# Altium footprint library Lib_foot_Radar.PcbLib: 80 footprints (part 4 of 5)
Each footprint in its own frame and in the unit in brackets; x right, y up, seen from the top. Pads: shape width x height; smd on the part's side, far side on the other; paste and mask are expansions set on the pad; w line width, h text height; cw(c..) or ccw(c..) is an arc to the next point about the centre after c.
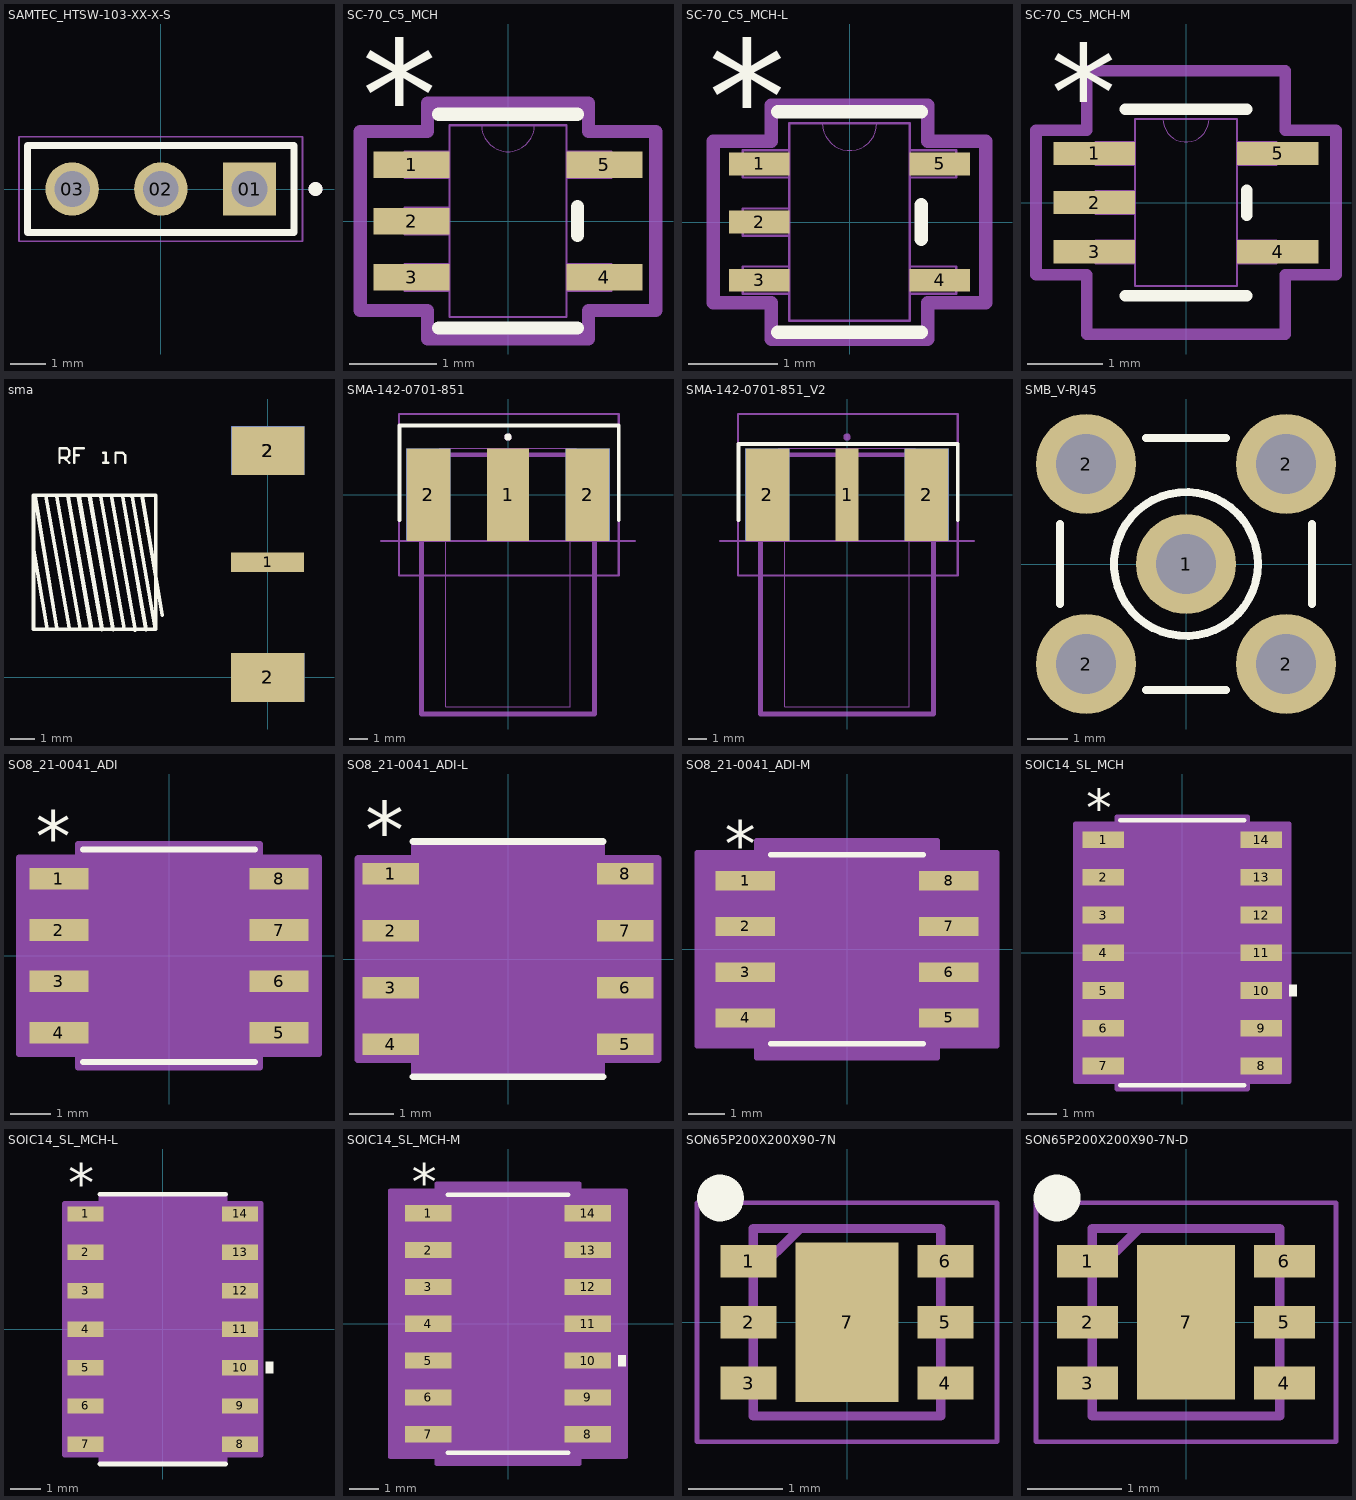
[diagram p3: the footprints below, top view; thin cyan lines are the x and y axes]

## SAMTEC_HTSW-103-XX-X-S [mm]
pads (3):
  rect 1.53x1.53 hole 1.02: 01(2.54,0)
  round 1.53 hole 1.02: 02(0,0) 03(-2.54,0)
Top Overlay:
  circle w0.2: c4.43,0 r0.1
  lines w0.2: -3.81,-1.245 3.81,-1.245 3.81,1.245 -3.81,1.245 -3.81,-1.245
Mechanical 13:
  circle w0.2: c4.43,0 r0.1
  lines w0.1: -3.81,-1.245 3.81,-1.245 3.81,1.245 -3.81,1.245 -3.81,-1.245
Mechanical 15:
  lines w0.05: -4.06,-1.495 4.06,-1.495 4.06,1.495 -4.06,1.495 -4.06,-1.495

## SC-70_C5_MCH [mil]
pads (5):
  rect 34.5x12 smd paste+0 mask+0: 1(-43.75,25.59) 2(-43.75,0) 3(-43.75,-25.59) 4(43.75,-25.59) 5(43.75,25.59)
Top Overlay:
  lines w6: -31.5,-48.5 31.5,-48.5 ; -31.5,48.5 31.5,48.5 ; 31.5,-6.49 31.5,6.49
  text "*" at -66.25,32.59 h50
Mechanical 13:
  lines w0: -12,43.5 ccw(c0,43.5) 12,43.5
  lines w1: -47,-31.59 -26.5,-31.59 -26.5,-19.59 -47,-19.59 -47,-31.59 ; -47,-6 -26.5,-6 -26.5,6 -47,6 -47,-6 ; -47,19.59 -26.5,19.59 -26.5,31.59 -47,31.59 -47,19.59 ; -26.5,-43.5 -26.5,43.5 26.5,43.5 26.5,-43.5 -26.5,-43.5 ; 26.5,-31.59 47,-31.59 47,-19.59 26.5,-19.59 26.5,-31.59 ; 26.5,19.59 47,19.59 47,31.59 26.5,31.59 26.5,19.59
  text "*" at -29,-10.41 h50
Mechanical 15:
  lines w6: -67,-40.59 -67,40.59 -36.5,40.59 -36.5,53.5 36.5,53.5 36.5,40.59 67,40.59 67,-40.59 36.5,-40.59 36.5,-53.5 -36.5,-53.5 -36.5,-40.59 -67,-40.59
3D body "SC-70_C5_MCH.step": height 43.11, standoff 0, extent -47.01,-43.5 47.01,43.5

## SC-70_C5_MCH-L [mil]
pads (5):
  rect 26.5x10 smd paste+0 mask+0: 1(-39.75,25.59) 2(-39.75,0) 3(-39.75,-25.59) 4(39.75,-25.59) 5(39.75,25.59)
Top Overlay:
  lines w6: -31.5,-48.5 31.5,-48.5 ; -31.5,48.5 31.5,48.5 ; 31.5,-7.49 31.5,7.49
  text "*" at -62.25,30.59 h50
Mechanical 13:
  lines w0: -12,43.5 ccw(c0,43.5) 12,43.5
  lines w1: -47,-31.59 -47,-19.59 -26.5,-19.59 -26.5,-31.59 -47,-31.59 ; -47,-6 -47,6 -26.5,6 -26.5,-6 -47,-6 ; -47,19.59 -47,31.59 -26.5,31.59 -26.5,19.59 -47,19.59 ; -26.5,-43.5 26.5,-43.5 26.5,43.5 -26.5,43.5 -26.5,-43.5 ; 26.5,-31.59 26.5,-19.59 47,-19.59 47,-31.59 26.5,-31.59 ; 26.5,19.59 26.5,31.59 47,31.59 47,19.59 26.5,19.59
  text "*" at -29,-12.41 h50
Mechanical 15:
  lines w6: -60,-35.59 -34.5,-35.59 -34.5,-51.5 34.5,-51.5 34.5,-35.59 60,-35.59 60,35.59 34.5,35.59 34.5,51.5 -34.5,51.5 -34.5,35.59 -60,35.59 -60,-35.59
3D body "SC-70_C5_MCH.step": height 43.11, standoff 0, extent -47.01,-43.5 47.01,43.5

## SC-70_C5_MCH-M [mil]
pads (5):
  rect 42.5x12 smd paste+0 mask+0: 1(-47.75,25.59) 2(-47.75,0) 3(-47.75,-25.59) 4(47.75,-25.59) 5(47.75,25.59)
Top Overlay:
  lines w6: -31.5,-48.5 31.5,-48.5 ; -31.5,48.5 31.5,48.5 ; 31.5,-6.49 31.5,6.49
  text "*" at -70.25,32.59 h50
Mechanical 13:
  lines w0: -12,43.5 ccw(c0,43.5) 12,43.5
  lines w1: -47,-31.59 -26.5,-31.59 -26.5,-19.59 -47,-19.59 -47,-31.59 ; -47,-6 -26.5,-6 -26.5,6 -47,6 -47,-6 ; -47,19.59 -26.5,19.59 -26.5,31.59 -47,31.59 -47,19.59 ; -26.5,-43.5 -26.5,43.5 26.5,43.5 26.5,-43.5 -26.5,-43.5 ; 26.5,-31.59 47,-31.59 47,-19.59 26.5,-19.59 26.5,-31.59 ; 26.5,19.59 47,19.59 47,31.59 26.5,31.59 26.5,19.59
  text "*" at -29,-10.41 h50
Mechanical 15:
  lines w6: -78,-37.59 -78,37.59 -51.5,37.59 -51.5,68.5 51.5,68.5 51.5,37.59 78,37.59 78,-37.59 51.5,-37.59 51.5,-68.5 -51.5,-68.5 -51.5,-37.59 -78,-37.59
3D body "SC-70_C5_MCH.step": height 43.11, standoff 0, extent -47.01,-43.5 47.01,43.5

## sma [mm]
pads (5):
  rect 3x0.8 smd mask+0.101: 1(-0.004,4.719)
  rect 3x2 smd mask+0.101: 2(0,0) 2(0.01,9.3)
  rect 3x2 smd far side mask+0.101: 2(0,0) 2(0,9.307)
Top Overlay:
  lines w0.1: -8.544,8.809 -8.544,9.409 -8.244,9.409 -8.144,9.309 -8.144,9.109 -8.244,9.009 -8.544,9.009 ; -8.344,9.009 -8.144,8.809 ; -7.944,8.809 -7.944,9.109 ; -7.544,9.409 -7.944,9.409 -7.944,9.109 ; -6.745,8.809 -6.545,8.809 -6.645,8.809 -6.645,9.209 -6.745,9.209 ; -6.245,8.809 -6.245,9.209 -5.945,9.209 -5.845,9.109 -5.845,8.809 ; -7.944,9.109 -7.744,9.109 -7.944,9.109
  lines w0.15: -9.613,1.971 -9.613,7.478 -4.613,7.478 ; -9.613,5.345 -9.042,1.971 ; -9.592,1.971 -4.592,1.971 -4.592,7.478 ; -9.55,7.435 -8.656,2.032 ; -9.103,7.456 -8.147,2.032 ; -8.188,7.414 -7.232,1.99 ; -7.762,7.393 -6.806,1.969 ; -7.741,7.435 -6.785,2.011 ; -7.315,7.414 -6.359,1.99 ; -6.4,7.372 -5.444,1.948 ; -5.953,7.393 -4.997,1.969 ; -5.567,7.415 -4.611,1.991 ; -5.161,7.478 -4.328,2.561 ; -8.656,7.414 -7.7,1.99 -8.656,7.414 ; -8.209,7.435 -7.253,2.011 -8.209,7.435 ; -7.294,7.393 -6.338,1.969 -7.294,7.393 ; -6.847,7.414 -5.891,1.99 -6.847,7.414

## SMA-142-0701-851 [mil] "SMA 50 Ohm, End Launch Jack Receptacle, Tab Contact"
height 312
pads (5):
  rect 90x200 smd: 1(0,0)
  rect 95x200 smd: 2(-172.5,0) 2(172.5,0)
  rect 95x200 smd far side: 2(-172.5,0) 2(172.5,0)
Top Overlay:
  circle w7.87: c0,125 r3.94
  lines w7.87: -235,-55 -235,150 240,150 240,-55
Mechanical 13:
  lines w4: -275,-100 275,-100
  lines w10: -187.5,-474.99 -187.5,87 187.5,87 187.5,-474.99 -187.5,-474.99
  text "PCB EDGE" at 260,-90 h24
Mechanical 15:
  lines w1.97: -147.64,-84.65 -147.64,100.39 147.64,100.39 147.64,-84.65 134.45,-84.65 134.45,-459.45 -134.45,-459.45 -134.45,-84.65 -147.64,-84.65
Mechanical 29:
  circle w7.87: c0,125 r3.94
  lines w5: -236.22,-175 -236.22,175 240.16,175 240.16,-175 -236.22,-175
  text ".Designator" at -95,-5 h19.68
3D body "142-0701-851.stp": height 161, standoff -151, extent -187.5,-490 187.5,72

## SMA-142-0701-851_V2 [mil] "SMA 50 Ohm, End Launch Jack Receptacle, Tab Contact"
height 312
pads (5):
  rect 50x200 smd: 1(0,0)
  rect 95x200 smd: 2(-172.5,0) 2(172.5,0)
  rect 95x200 smd far side: 2(-172.5,0) 2(172.5,0)
Top Overlay:
  lines w7.87: -235,-55 -235,110 240,110 240,-55
Mechanical 13:
  lines w4: -275,-100 275,-100
  lines w10: -187.5,-474.99 187.5,-474.99 187.5,87 -187.5,87 -187.5,-474.99
Mechanical 15:
  lines w1.97: -147.64,-84.65 -134.45,-84.65 -134.45,-459.45 134.45,-459.45 134.45,-84.65 147.64,-84.65 147.64,100.39 -147.64,100.39 -147.64,-84.65
Mechanical 29:
  circle w7.87: c0,125 r3.94
  lines w5: -236.22,-175 240.16,-175 240.16,175 -236.22,175 -236.22,-175
  text ".Designator" at -95,-5 h19.68
3D body "142-0701-851.stp": height 161, standoff -151, extent -187.5,-499.99 187.5,62

## SMB_V-RJ45 [mm]
pads (5):
  round 2.5 hole 1.5: 1(0,0) 2(-2.5,-2.5) 2(-2.5,2.5) 2(2.5,-2.5) 2(2.5,2.5)
Top Overlay:
  circle w0.2: c0,0 r1.8
  lines w0.2: -3.15,-1 -3.15,1 ; -1,-3.15 1,-3.15 ; -1,3.15 1,3.15 ; 3.15,-1 3.15,1
Mechanical 1:
  circle w0.025: c0,0 r1.8
  circle w0.025: c0,0 r1.05
  circle w0.025: c0,0 r0.2

## SO8_21-0041_ADI [mil]
pads (8):
  rect 57.5x21 smd paste+0 mask+0: 1(-107.25,75) 2(-107.25,25) 3(-107.25,-25) 4(-107.25,-75) 5(107.25,-75) 6(107.25,-25) 7(107.25,25) 8(107.25,75)
Top Overlay:
  lines w6: -83.5,-103.5 83.5,-103.5 ; -83.5,103.5 83.5,103.5
  text "*" at -129.75,91 h50
Mechanical 13:
  lines w0: -12,98.5 ccw(c0,98.5) 12,98.5
  lines w1: -122,-84.5 -122,-65.5 -78.5,-65.5 -78.5,-84.5 -122,-84.5 ; -122,-34.5 -122,-15.5 -78.5,-15.5 -78.5,-34.5 -122,-34.5 ; -122,15.5 -122,34.5 -78.5,34.5 -78.5,15.5 -122,15.5 ; -122,65.5 -122,84.5 -78.5,84.5 -78.5,65.5 -122,65.5 ; -78.5,-98.5 78.5,-98.5 78.5,98.5 -78.5,98.5 -78.5,-98.5 ; 78.5,-84.5 78.5,-65.5 122,-65.5 122,-84.5 78.5,-84.5 ; 78.5,-34.5 78.5,-15.5 122,-15.5 122,-34.5 78.5,-34.5 ; 78.5,15.5 78.5,34.5 122,34.5 122,15.5 78.5,15.5 ; 78.5,65.5 78.5,84.5 122,84.5 122,65.5 78.5,65.5
  text "*" at -76,45.5 h50
Mechanical 15:
  region: -88.5,-95.5 -146,-95.5 -146,95.5 -88.5,95.5 -88.5,108.5 88.5,108.5 88.5,95.5 146,95.5 146,-95.5 88.5,-95.5 88.5,-108.5 -88.5,-108.5
  lines w6: -146,-95.5 -146,95.5 -88.5,95.5 -88.5,108.5 88.5,108.5 88.5,95.5 146,95.5 146,-95.5 88.5,-95.5 88.5,-108.5 -88.5,-108.5 -88.5,-95.5 -146,-95.5
3D body "SO8_21-0041_ADI.step": height 69.09, standoff 0, extent -122.01,-98.5 122.01,98.5

## SO8_21-0041_ADI-L [mil]
pads (8):
  rect 49.5x19 smd paste+0 mask+0: 1(-103.25,75) 2(-103.25,25) 3(-103.25,-25) 4(-103.25,-75) 5(103.25,-75) 6(103.25,-25) 7(103.25,25) 8(103.25,75)
Top Overlay:
  lines w6: -83.5,-103.5 83.5,-103.5 ; -83.5,103.5 83.5,103.5
  text "*" at -125.75,89 h50
Mechanical 13:
  lines w0: -12,98.5 ccw(c0,98.5) 12,98.5
  lines w1: -122,-84.5 -78.5,-84.5 -78.5,-65.5 -122,-65.5 -122,-84.5 ; -122,-34.5 -78.5,-34.5 -78.5,-15.5 -122,-15.5 -122,-34.5 ; -122,15.5 -78.5,15.5 -78.5,34.5 -122,34.5 -122,15.5 ; -122,65.5 -78.5,65.5 -78.5,84.5 -122,84.5 -122,65.5 ; -78.5,-98.5 -78.5,98.5 78.5,98.5 78.5,-98.5 -78.5,-98.5 ; 78.5,-84.5 122,-84.5 122,-65.5 78.5,-65.5 78.5,-84.5 ; 78.5,-34.5 122,-34.5 122,-15.5 78.5,-15.5 78.5,-34.5 ; 78.5,15.5 122,15.5 122,34.5 78.5,34.5 78.5,15.5 ; 78.5,65.5 122,65.5 122,84.5 78.5,84.5 78.5,65.5
  text "*" at -76,45.5 h50
Mechanical 15:
  region: -82.5,-88.5 -132,-88.5 -132,88.5 -82.5,88.5 -82.5,102.5 82.5,102.5 82.5,88.5 132,88.5 132,-88.5 82.5,-88.5 82.5,-102.5 -82.5,-102.5
  lines w6: -132,-88.5 -82.5,-88.5 -82.5,-102.5 82.5,-102.5 82.5,-88.5 132,-88.5 132,88.5 82.5,88.5 82.5,102.5 -82.5,102.5 -82.5,88.5 -132,88.5 -132,-88.5
3D body "SO8_21-0041_ADI.step": height 69.09, standoff 0, extent -122.01,-98.5 122.01,98.5

## SO8_21-0041_ADI-M [mil]
pads (8):
  rect 65.5x21 smd paste+0 mask+0: 1(-111.25,75) 2(-111.25,25) 3(-111.25,-25) 4(-111.25,-75) 5(111.25,-75) 6(111.25,-25) 7(111.25,25) 8(111.25,75)
Top Overlay:
  lines w6: -83.5,-103.5 83.5,-103.5 ; -83.5,103.5 83.5,103.5
  text "*" at -133.75,91 h50
Mechanical 13:
  lines w0: -12,98.5 ccw(c0,98.5) 12,98.5
  lines w1: -122,-84.5 -122,-65.5 -78.5,-65.5 -78.5,-84.5 -122,-84.5 ; -122,-34.5 -122,-15.5 -78.5,-15.5 -78.5,-34.5 -122,-34.5 ; -122,15.5 -122,34.5 -78.5,34.5 -78.5,15.5 -122,15.5 ; -122,65.5 -122,84.5 -78.5,84.5 -78.5,65.5 -122,65.5 ; -78.5,-98.5 78.5,-98.5 78.5,98.5 -78.5,98.5 -78.5,-98.5 ; 78.5,-84.5 78.5,-65.5 122,-65.5 122,-84.5 78.5,-84.5 ; 78.5,-34.5 78.5,-15.5 122,-15.5 122,-34.5 78.5,-34.5 ; 78.5,15.5 78.5,34.5 122,34.5 122,15.5 78.5,15.5 ; 78.5,65.5 78.5,84.5 122,84.5 122,65.5 78.5,65.5
  text "*" at -76,45.5 h50
Mechanical 15:
  region: -98.5,-105.5 -164,-105.5 -164,105.5 -98.5,105.5 -98.5,118.5 98.5,118.5 98.5,105.5 164,105.5 164,-105.5 98.5,-105.5 98.5,-118.5 -98.5,-118.5
  lines w6: -164,-105.5 -164,105.5 -98.5,105.5 -98.5,118.5 98.5,118.5 98.5,105.5 164,105.5 164,-105.5 98.5,-105.5 98.5,-118.5 -98.5,-118.5 -98.5,-105.5 -164,-105.5
3D body "SO8_21-0041_ADI.step": height 69.09, standoff 0, extent -122.01,-98.5 122.01,98.5

## SOIC14_SL_MCH [mil]
pads (14):
  rect 55x22 smd paste+0 mask+0: 1(-104.5,150) 2(-104.5,100) 3(-104.5,50) 4(-104.5,0) 5(-104.5,-50) 6(-104.5,-100) 7(-104.5,-150) 8(104.5,-150) 9(104.5,-100) 10(104.5,-50) 11(104.5,0) 12(104.5,50) 13(104.5,100) 14(104.5,150)
Top Overlay:
  region: 142,-42.5 152,-42.5 152,-57.5 142,-57.5
  lines w6: -82,-175.5 82,-175.5 ; -82,175.5 82,175.5
  text "*" at -127,167 h50
Mechanical 13:
  lines w0: -12,170.5 ccw(c0,170.5) 12,170.5
  lines w1: -118,-160 -118,-140 -77,-140 -77,-160 -118,-160 ; -118,-110 -118,-90 -77,-90 -77,-110 -118,-110 ; -118,-60 -118,-40 -77,-40 -77,-60 -118,-60 ; -118,-10 -118,10 -77,10 -77,-10 -118,-10 ; -118,40 -118,60 -77,60 -77,40 -118,40 ; -118,90 -118,110 -77,110 -77,90 -118,90 ; -118,140 -118,160 -77,160 -77,140 -118,140 ; -77,-170.5 77,-170.5 77,170.5 -77,170.5 -77,-170.5 ; 77,-160 77,-140 118,-140 118,-160 77,-160 ; 77,-110 77,-90 118,-90 118,-110 77,-110 ; 77,-60 77,-40 118,-40 118,-60 77,-60 ; 77,-10 77,10 118,10 118,-10 77,-10 ; 77,40 77,60 118,60 118,40 77,40 ; 77,90 77,110 118,110 118,90 77,90 ; 77,140 77,160 118,160 118,140 77,140
  text "*" at -74.5,117.5 h50
Mechanical 15:
  region: -87,-171 -142,-171 -142,171 -87,171 -87,180.5 87,180.5 87,171 142,171 142,-171 87,-171 87,-180.5 -87,-180.5
  lines w6: -142,-171 -142,171 -87,171 -87,180.5 87,180.5 87,171 142,171 142,-171 87,-171 87,-180.5 -87,-180.5 -87,-171 -142,-171
3D body "SOIC14_SL_MCH.step": height 69.09, standoff 0, extent -117.99,-170.51 117.99,170.51

## SOIC14_SL_MCH-L [mil]
pads (14):
  rect 47x20 smd paste+0 mask+0: 1(-100.5,150) 2(-100.5,100) 3(-100.5,50) 4(-100.5,0) 5(-100.5,-50) 6(-100.5,-100) 7(-100.5,-150) 8(100.5,-150) 9(100.5,-100) 10(100.5,-50) 11(100.5,0) 12(100.5,50) 13(100.5,100) 14(100.5,150)
Top Overlay:
  region: 134,-42.5 144,-42.5 144,-57.5 134,-57.5
  lines w6: -82,-175.5 82,-175.5 ; -82,175.5 82,175.5
  text "*" at -123,165 h50
Mechanical 13:
  lines w0: -12,170.5 ccw(c0,170.5) 12,170.5
  lines w1: -118,-160 -118,-140 -77,-140 -77,-160 -118,-160 ; -118,-110 -118,-90 -77,-90 -77,-110 -118,-110 ; -118,-60 -118,-40 -77,-40 -77,-60 -118,-60 ; -118,-10 -118,10 -77,10 -77,-10 -118,-10 ; -118,40 -118,60 -77,60 -77,40 -118,40 ; -118,90 -118,110 -77,110 -77,90 -118,90 ; -118,140 -118,160 -77,160 -77,140 -118,140 ; -77,-170.5 77,-170.5 77,170.5 -77,170.5 -77,-170.5 ; 77,-160 77,-140 118,-140 118,-160 77,-160 ; 77,-110 77,-90 118,-90 118,-110 77,-110 ; 77,-60 77,-40 118,-40 118,-60 77,-60 ; 77,-10 77,10 118,10 118,-10 77,-10 ; 77,40 77,60 118,60 118,40 77,40 ; 77,90 77,110 118,110 118,90 77,90 ; 77,140 77,160 118,160 118,140 77,140
  text "*" at -74.5,117.5 h50
Mechanical 15:
  region: -81,-164 -128,-164 -128,164 -81,164 -81,174.5 81,174.5 81,164 128,164 128,-164 81,-164 81,-174.5 -81,-174.5
  lines w6: -128,-164 -128,164 -81,164 -81,174.5 81,174.5 81,164 128,164 128,-164 81,-164 81,-174.5 -81,-174.5 -81,-164 -128,-164
3D body "SOIC14_SL_MCH.step": height 69.09, standoff 0, extent -117.99,-170.51 117.99,170.51

## SOIC14_SL_MCH-M [mil]
pads (14):
  rect 63x22 smd paste+0 mask+0: 1(-108.5,150) 2(-108.5,100) 3(-108.5,50) 4(-108.5,0) 5(-108.5,-50) 6(-108.5,-100) 7(-108.5,-150) 8(108.5,-150) 9(108.5,-100) 10(108.5,-50) 11(108.5,0) 12(108.5,50) 13(108.5,100) 14(108.5,150)
Top Overlay:
  region: 150,-42.5 160,-42.5 160,-57.5 150,-57.5
  lines w6: -82,-175.5 82,-175.5 ; -82,175.5 82,175.5
  text "*" at -131,167 h50
Mechanical 13:
  lines w0: -12,170.5 ccw(c0,170.5) 12,170.5
  lines w1: -118,-160 -118,-140 -77,-140 -77,-160 -118,-160 ; -118,-110 -118,-90 -77,-90 -77,-110 -118,-110 ; -118,-60 -118,-40 -77,-40 -77,-60 -118,-60 ; -118,-10 -118,10 -77,10 -77,-10 -118,-10 ; -118,40 -118,60 -77,60 -77,40 -118,40 ; -118,90 -118,110 -77,110 -77,90 -118,90 ; -118,140 -118,160 -77,160 -77,140 -118,140 ; -77,-170.5 77,-170.5 77,170.5 -77,170.5 -77,-170.5 ; 77,-160 77,-140 118,-140 118,-160 77,-160 ; 77,-110 77,-90 118,-90 118,-110 77,-110 ; 77,-60 77,-40 118,-40 118,-60 77,-60 ; 77,-10 77,10 118,10 118,-10 77,-10 ; 77,40 77,60 118,60 118,40 77,40 ; 77,90 77,110 118,110 118,90 77,90 ; 77,140 77,160 118,160 118,140 77,140
  text "*" at -74.5,117.5 h50
Mechanical 15:
  region: -97,-181 -160,-181 -160,181 -97,181 -97,190.5 97,190.5 97,181 160,181 160,-181 97,-181 97,-190.5 -97,-190.5
  lines w6: -160,-181 -160,181 -97,181 -97,190.5 97,190.5 97,181 160,181 160,-181 97,-181 97,-190.5 -97,-190.5 -97,-181 -160,-181
3D body "SOIC14_SL_MCH.step": height 69.09, standoff 0, extent -117.99,-170.51 117.99,170.51

## SON65P200X200X90-7N [mm]
pads (7):
  rect 0.6x0.35 smd: 1(-1.05,0.65) 2(-1.05,0) 3(-1.05,-0.65) 4(1.05,-0.65) 5(1.05,0) 6(1.05,0.65)
  rect 1.1x1.7 smd: 7(0,0)
Top Overlay:
  circle w0.25: c-1.35,1.325 r0.125
Mechanical 15:
  lines w0.1: -1,0.5 -0.5,1 ; -1,-1 1,-1 1,1 -1,1 -1,-1
Mechanical 20:
  lines w0.05: -1.6,-1.275 1.6,-1.275 1.6,1.275 -1.6,1.275 -1.6,-1.275
3D body "HMC8412LP2FETR.stp": height 0.9, standoff 0, extent -1.05,-1 1.05,1

## SON65P200X200X90-7N-D [mm]
pads (7):
  rect 0.65x0.35 smd: 1(-1.05,0.65) 2(-1.05,0) 3(-1.05,-0.65) 4(1.05,-0.65) 5(1.05,0) 6(1.05,0.65)
  rect 1.05x1.65 smd: 7(0,0)
Top Overlay:
  circle w0.25: c-1.375,1.325 r0.125
Mechanical 15:
  lines w0.1: -1,0.5 -0.5,1 ; -1,-1 -1,1 1,1 1,-1 -1,-1
Mechanical 20:
  lines w0.05: -1.6,-1.275 -1.6,1.275 1.6,1.275 1.6,-1.275 -1.6,-1.275
3D body "HMC8410LP2FETR.stp": height 0.9, standoff 0, extent -1.05,-1 1.05,1